# EAGLE library part F3261AH (library simple_clock)
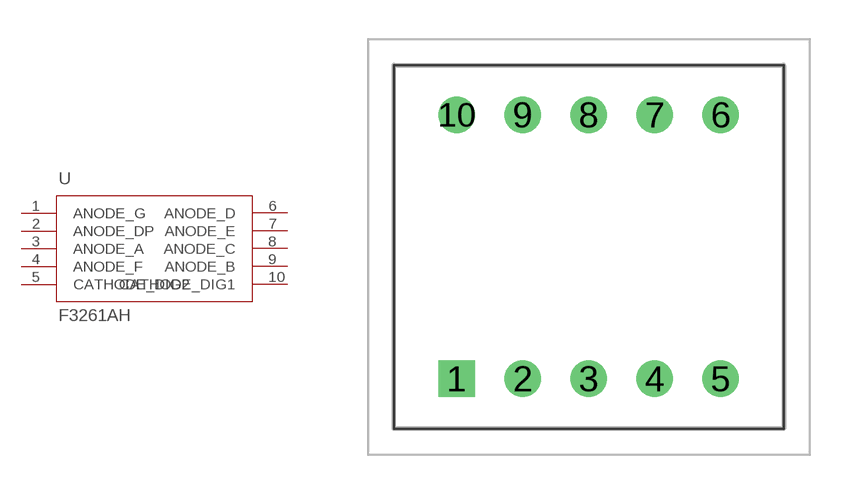
[diagram p1: symbol with the pads of F3261AH; footprint F3261AH]

Designator prefix -

## F3261AH  [F3261AH]
1  ANODE_G
2  ANODE_DP
3  ANODE_A
4  ANODE_F
5  CATHODE_DIG2
6  ANODE_D
7  ANODE_E
8  ANODE_C
9  ANODE_B
10  CATHODE_DIG1

## Footprint F3261AH (pad centres in mm)
F3261AH
drill 0.9 square: 1 -5.08,-5.08
drill 0.9: 2 -2.54,-5.08; 3 0,-5.08; 4 2.54,-5.08; 5 5.08,-5.08; 6 5.08,5.08; 7 2.54,5.08; 8 0,5.08; 9 -2.54,5.08; 10 -5.08,5.08